# EAGLE library part MOLEX_MINI_FIT_JR (library MiniFitJr_DesignedByHirohashi)
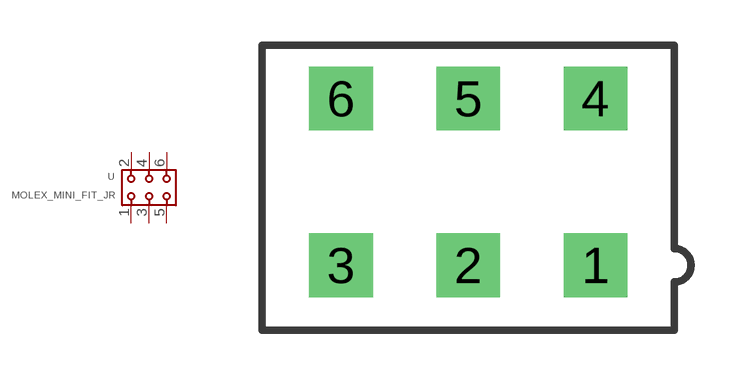
[diagram p0: symbol with the pads of MINI_FIT_JR_FOOTPRINT; footprint MINI_FIT_JR_FOOTPRINT]

Designator prefix -

## MOLEX_MINI_FIT_JR  [MINI_FIT_JR_FOOTPRINT]
1  1  pas
2  2  pas
3  3  pas
4  4  pas
5  5  pas
6  6  pas

## Footprint MINI_FIT_JR_FOOTPRINT (pad centres in mm)
drill 1.4 square: 1 4.2,-2.75; 2 0,-2.75; 3 -4.2,-2.75; 4 4.2,2.75; 5 0,2.75; 6 -4.2,2.75